# EAGLE library part RJ45-8 (library daspilker)
RJ45 Jack Simple RJ45, 8-pin connector
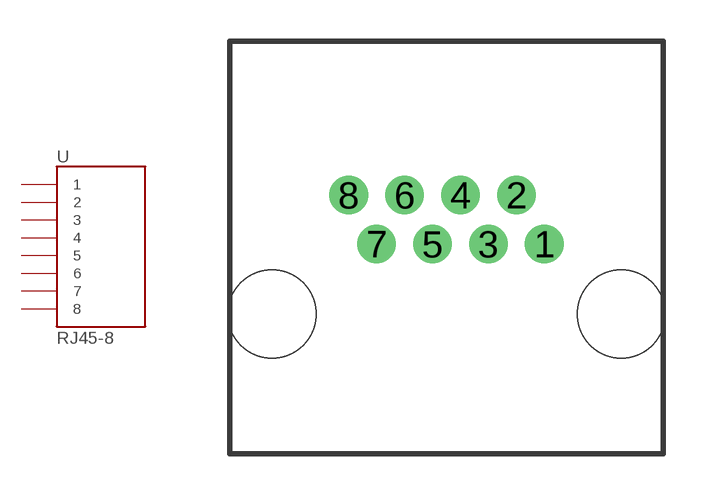
[diagram p1: symbol with the pads of RJHSE-5080; footprint RJHSE-5080]

Designator prefix -

## RJ45-8PTH  [RJHSE-5080]
1  1
2  2
3  3
4  4
5  5
6  6
7  7
8  8

## Footprint RJHSE-5080 (pad centres in mm)
drill 0.9: 1 3.556,2.54; 2 2.54,4.318; 3 1.524,2.54; 4 0.508,4.318; 5 -0.508,2.54; 6 -1.524,4.318; 7 -2.54,2.54; 8 -3.556,4.318
hole 3.2 at -6.35,0
hole 3.2 at 6.35,0